# Altium footprint library SSM-106-L-SH.PcbLib: 1 footprints
Each footprint in its own frame and in the unit in brackets; x right, y up, seen from the top. Pads: shape width x height; smd on the part's side, far side on the other; paste and mask are expansions set on the pad; w line width, h text height; cw(c..) or ccw(c..) is an arc to the next point about the centre after c.
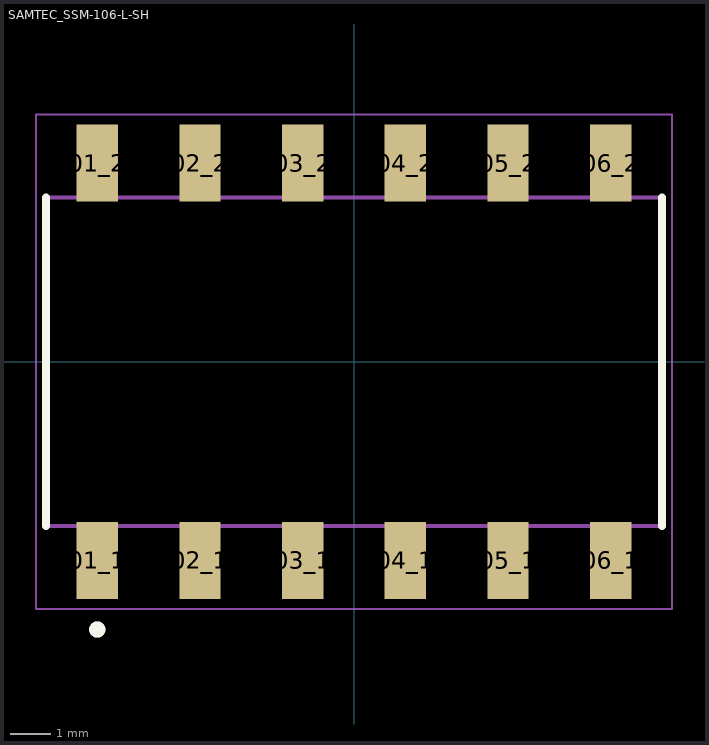
[diagram p0: the footprint, top view; thin cyan lines are the x and y axes]

## SAMTEC_SSM-106-L-SH [mm]
pads (12):
  rect 1.02x1.905 smd: 01_1(-6.35,-4.912) 01_2(-6.35,4.912) 02_1(-3.81,-4.912) 02_2(-3.81,4.912) 03_1(-1.27,-4.912) 03_2(-1.27,4.912) 04_1(1.27,-4.912) 04_2(1.27,4.912) 05_1(3.81,-4.912) 05_2(3.81,4.912) 06_1(6.35,-4.912) 06_2(6.35,4.912)
Top Overlay:
  circle w0.2: c-6.35,-6.625 r0.1
  lines w0.2: -7.62,-4.065 -7.62,4.065 ; 7.62,-4.065 7.62,4.065
Mechanical 13:
  circle w0.2: c-6.35,-6.625 r0.1
  lines w0.1: -7.62,-4.065 7.62,-4.065 7.62,4.065 -7.62,4.065 -7.62,-4.065
Mechanical 15:
  lines w0.05: -7.87,-6.115 7.87,-6.115 7.87,6.115 -7.87,6.115 -7.87,-6.115